# EAGLE library part DF3-06 (library con-hirose)
Single row connector 2mm 6 way
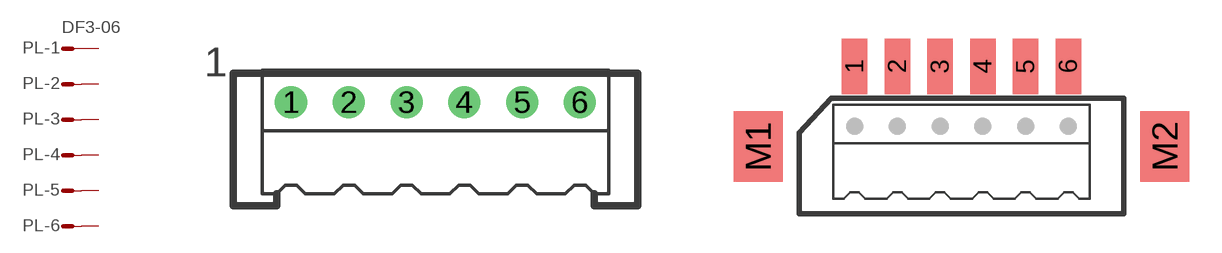
[diagram p1: symbol with the pads of DF3P-06; footprints DF3P-06, DF3DZ-06]

Designator prefix PL; gates -1=MV -2=M -3=M -4=M -5=M -6=M

## DF3-06P  [DF3P-06]
1  -1:S  pas
2  -2:S  pas
3  -3:S  pas
4  -4:S  pas
5  -5:S  pas
6  -6:S  pas

## DF3-06DZ  [DF3DZ-06]
Pads as for DF3P-06

## DF3-06R  [DF3R-06]
Pads as for DF3P-06

## Footprint DF3P-06 (pad centres in mm)
Single row connector 2mm 6 way
drill 0.6 round: 1 -5,1; 2 -3,1; 3 -1,1; 4 1,1; 5 3,1; 6 5,1

## Footprint DF3DZ-06 (pad centres in mm)
Single row SMT connector 2mm 6 way
smd 1.2 x 2.6: 1 -5,4.1; 2 -3,4.1; 3 -1,4.1; 4 1,4.1; 5 3,4.1; 6 5,4.1
smd 2.3 x 3.3: M1 -9.52,0.35; M2 9.52,0.35

## Footprint DF3R-06 (pad centres in mm)
Single row connector 2mm 6 way
drill 0.6 round: 1 -5,1.8; 2 -3,1.8; 3 -1,1.8; 4 1,1.8; 5 3,1.8; 6 5,1.8